# Altium schematic symbol library GRM21BF51A475ZA01L.SchLib: 1 symbol
Pins are listed as number, name and electrical type; pins without a type are passive.

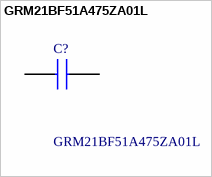
[diagram p0: symbol GRM21BF51A475ZA01L]

## GRM21BF51A475ZA01L
designator C?
Murata 4.7uF 10 V dc Y5V Dielectric SMD Ceramic Multilayer Capacitor 0805; Manufacturer_Name: Murata Electronics; Geometry.Height: 1.45mm; Mouser Part Number: 81-GRM40Y5V475Z010AL; Mouser Price/Stock: https://www.mouser.com/Search/Refine.aspx?Keyword=81-GRM40Y5V475Z010AL; Manufacturer_Part_Number: GRM21BF51A475ZA01L; Datasheet Link: https://componentsearchengine.com/Datasheets/1/GRM21BF51A475ZA01L.pdf
footprint CAPC2012X145N
pins: 1, 2